# Altium integrated library KEFA.IntLib: 2 symbols
Pins are listed as number, name and electrical type; pins without a type are passive.

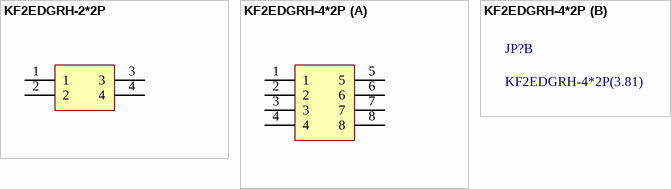
[diagram p0: symbols KF2EDGRH-2*2P to KF2EDGRH-4*2P]

## KF2EDGRH-2*2P
designator JP?, comment KF2EDGRH-2*2P(3.81)
KF2EDGRH-3.5/KF2EDGRH-3.81 插拔式接线端子; ComponentLink1Description: Datasheet; ComponentLink1URL: http://www.cnkefa.com/product/0-1182.html
footprint KF2EDGRH-3.81-2*2P
pins: 1, 2, 3, 4

## KF2EDGRH-4*2P
designator JP?, comment KF2EDGRH-4*2P(3.81)
KF2EDGRH-3.5/KF2EDGRH-3.81 插拔式接线端子; ComponentLink1Description: Datasheet; ComponentLink1URL: http://www.cnkefa.com/product/0-1182.html
footprint KF2EDGRH-3.81-4*2P
part A pins: 1, 2, 3, 4, 5, 6, 7, 8
1 alternate drawing of the same symbol